# Altium schematic symbol library Schlib1.SchLib: 5 symbols
Pins are listed as number, name and electrical type; pins without a type are passive.

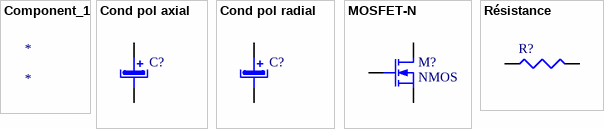
[diagram p0: symbols Component_1 to Résistance]

## Component_1
designator *

## Cond pol axial
designator C?
Condensateur polarisé; Type: Condensateur polarisé couché; Designer: ECAM 2004
simulation model Model Name (Model Description)
footprint CAPPA14.05-10.5x6.3 (Capacitor, Axial, Polarised; Body 10.5 x 6.3 mm (LxDia. max), Lead Dia. 0.6 mm (typ))
footprint CAPPA23.6-18.5x8.5 (Capacitor, Axial, Polarised; Body 18.5 x 8.5 mm (LxDia. max), Lead Dia. 0.8 mm (typ))
footprint CAPPA31.6-26.5x12.5 (Capacitor, Axial, Polarised; Body 26.5 x 12.5 mm (LxDia. max), Lead Dia. 0.8 mm (typ))
footprint CAPPA35.6-30.5x18.5 (Capacitor, Axial, Polarised; Body 30.5 x 18.5 mm (LxDia. max), Lead Dia. 0.8 mm (typ))
footprint CAPPA46.1-41x21.5 (Capacitor, Axial, Polarised; Body 41 x 21.5 mm (LxDia. max), Lead Dia. 0.8 mm (typ))
pins: 1 +, 2 -
2 alternate drawings of the same symbol

## Cond pol radial
designator C?
Condensateur polatisé; Type: Condensateur polarisé debout; Designer: ECAM 2004
simulation model Model Name (Model Description)
footprint CAPPR1.27-1.7x2.8 (Capacitor, Radial, Tantalum; Body 1.7 x 2.8 mm (Dia.xH max); Pin Spacing 1.27 mm (typ))
footprint CAPPR1.5-4x5 (Capacitor, Electrolytic, Radial; Body 4 x 5 mm (Dia.xH typ); Pin Spacing 1.5 mm (typ))
footprint CAPPR2-5x6.8 (Capacitor, Electrolytic, Radial; Body 5 x 6.8 mm (Dia.xH typ); Pin Spacing 2 mm (typ))
footprint CAPPR5-5x5 (Capacitor, Electrolytic, Radial; Body 5 x 5 mm (Dia.xH typ); Pin Spacing 5 mm (typ))
footprint CAPPR7.5-16x35 (Capacitor, Electrolytic, Radial; Body 16 x 35 mm (Dia.xH typ); Pin Spacing 7.5 mm (typ))
pins: 1 +, 2 -
2 alternate drawings of the same symbol

## MOSFET-N
designator M?  value NMOS
MOSFET; Designer: ECAM 2002; Type: Mosfet canal N
footprint TO-39
simulation model NMOS (MOSFET-N)
footprint TO-18
pins: 1 S, 2 D, 3 G
1 alternate drawing of the same symbol

## Résistance
designator R?
Résistance standard; Designer: ECAM 2005; Type: Résistance standard
simulation model Model Name (Model Description)
footprint AXIAL-0.3 (Resistor; 2 Leads)
footprint AXIAL-0.4 (Resistor; 2 Leads)
footprint AXIAL-0.5 (Semiconductor Resistor; 2 Leads)
footprint AXIAL-1.0 (Adjustable Magnetic-Core Inductor; 2 Leads)
pins: 1, 2
3 alternate drawings of the same symbol